# Altium footprint library ARBOR.PcbLib: 21 footprints (part 1 of 2)
Each footprint in its own frame and in the unit in brackets; x right, y up, seen from the top. Pads: shape width x height; smd on the part's side, far side on the other; paste and mask are expansions set on the pad; w line width, h text height; cw(c..) or ccw(c..) is an arc to the next point about the centre after c.
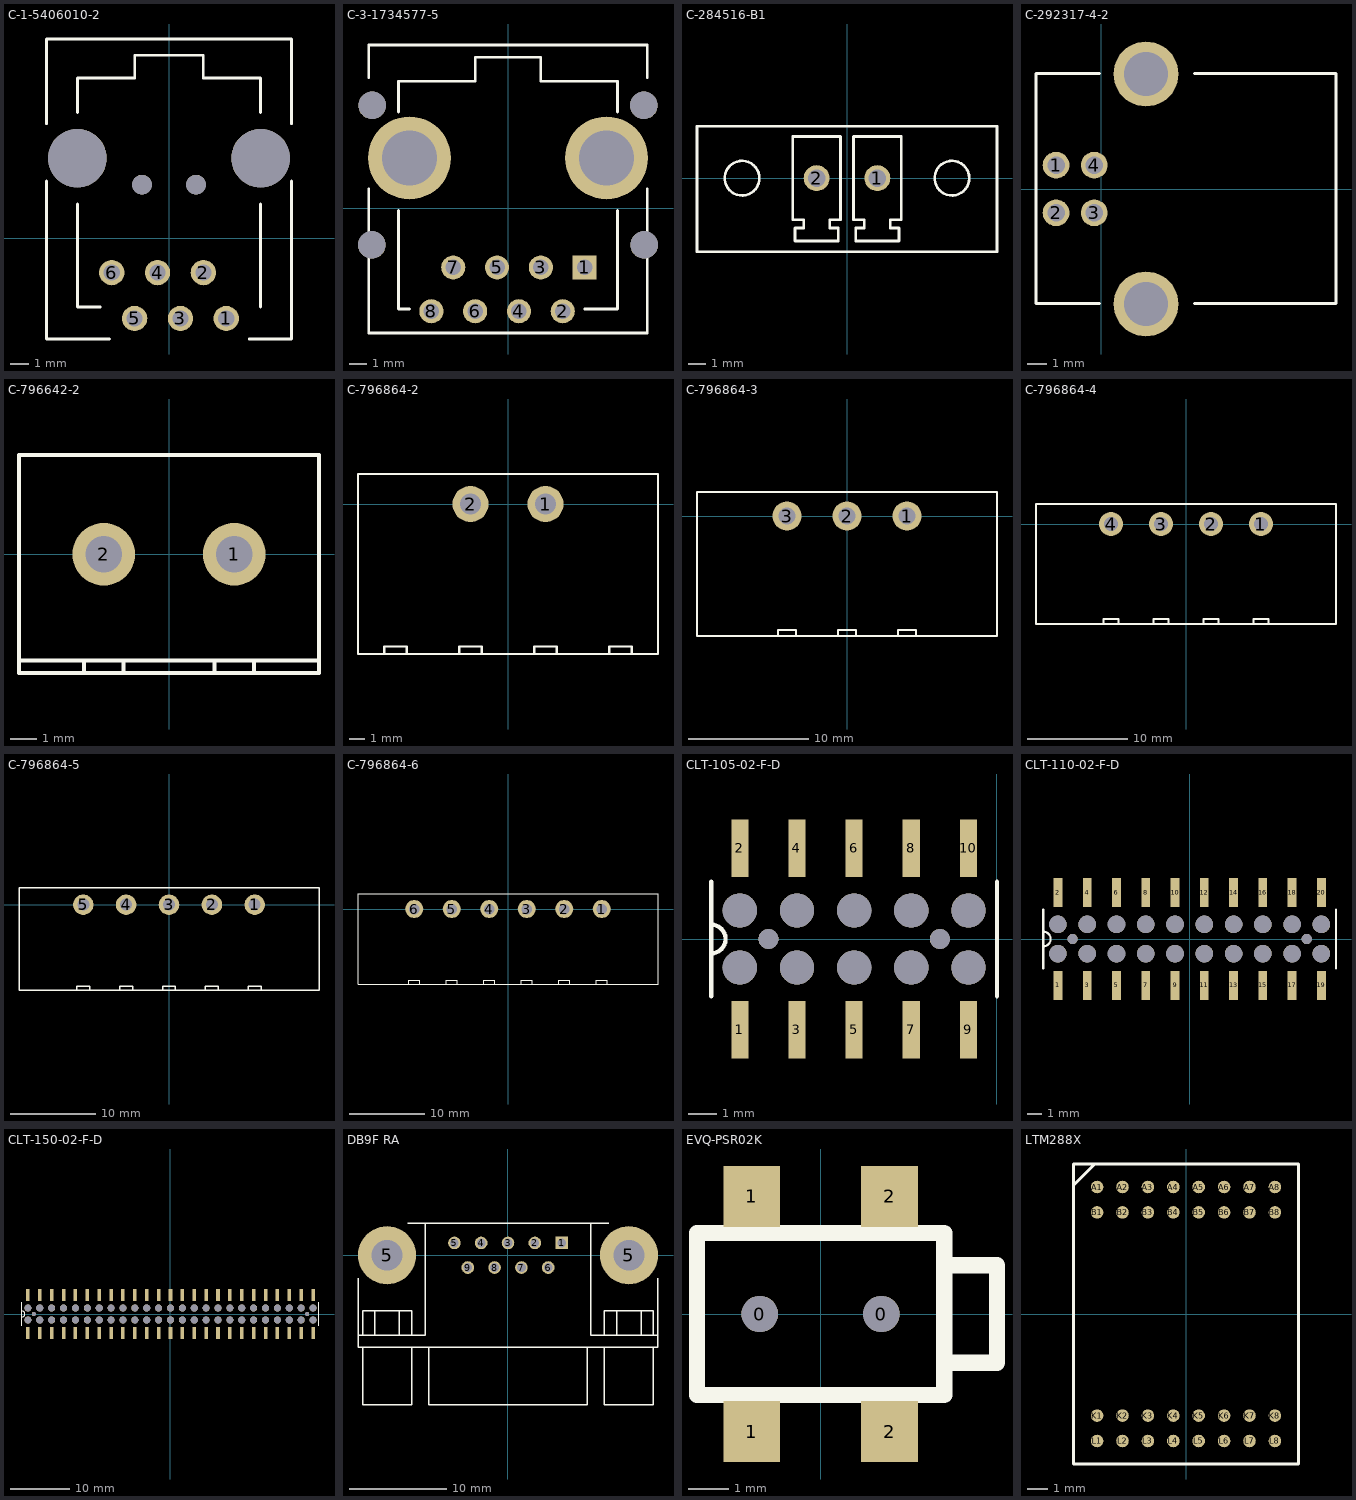
[diagram p0: the footprints below, top view; thin cyan lines are the x and y axes]

## C-1-5406010-2 [mm] "Tyco Electronics Vertical RJ11"
height 16.51
pads (10):
  round 1.4 hole 0.89: 1(3.175,-4.445) 2(1.905,-1.905) 3(0.635,-4.445) 4(-0.635,-1.905) 5(-1.905,-4.445) 6(-3.175,-1.905)
  round 3.25 hole 3.25 unplated: ""(-5.08,4.445) ""(5.08,4.445)
  round 1.09 hole 1.09 unplated: ""(-1.5,2.975) ""(1.5,2.975)
Top Overlay:
  lines w0.152: -6.795,3.175 -6.795,-5.585 -3.305,-5.585 ; -6.795,6.35 -6.795,11.055 0,11.055 6.795,11.055 6.795,6.35 ; -5.08,1.905 -5.08,-3.81 -3.81,-3.81 ; -5.08,6.985 -5.08,8.89 -1.905,8.89 -1.905,10.16 1.905,10.16 1.905,8.89 5.08,8.89 5.08,6.985 ; 4.445,-5.585 6.795,-5.585 6.795,3.175 ; 5.08,-3.81 5.08,1.905
3D body: height 16.38, standoff -3.17, extent -6.788,-5.58 6.839,10.93

## C-3-1734577-5 [mm] "Tyco Electronics Vertical RJ45"
height 16.51
pads (14):
  rect 1.4x1.4 hole 0.9: 1(4.445,-3.43)
  round 1.4 hole 0.9: 2(3.175,-5.97) 3(1.905,-3.43) 4(0.635,-5.97) 5(-0.635,-3.43) 6(-1.905,-5.97) 7(-3.175,-3.43) 8(-4.445,-5.97)
  round 1.6 hole 1.6 unplated: ""(-7.9,-2.12) ""(-7.875,5.97) ""(7.875,5.97) ""(7.9,-2.12)
  round 4.8 hole 3.2: ""(-5.715,2.92) ""(5.715,2.92)
Top Overlay:
  lines w0.152: -8.075,1.142 -8.075,-7.23 8.075,-7.23 8.075,1.142 ; -8.075,7.565 -8.075,9.47 8.075,9.47 8.075,7.565 ; -6.35,-0.128 -6.35,-5.843 -5.715,-5.843 ; -6.35,5.587 -6.35,7.365 -1.905,7.365 -1.905,8.762 1.905,8.762 1.905,7.365 6.35,7.365 6.35,5.587 ; 4.445,-5.843 6.35,-5.843 6.35,-0.128
3D body: height 16.51, standoff -3.44, extent -8.075,-7.298 8.075,9.402

## C-284516-B1 [mm] "Tyco Electronics Terminal Block 2 Way Vertical Header"
height 9.2
pads (2):
  round 1.5 hole 1: 1(1.75,0) 2(-1.75,0)
Top Overlay:
  circle w0.152: c-6.05,0 r1
  circle w0.152: c6.05,0 r1
  lines w0.152: -8.65,-4.25 8.65,-4.25 8.65,3 -8.65,3 -8.65,-4.25 ; -3.125,-2.4 -2.5,-2.4 -2.5,-2.875 -3,-2.875 -3,-3.625 -0.5,-3.625 -0.5,-2.875 -1,-2.875 -1,-2.4 -0.375,-2.4 -0.375,0 -0.375,2.4 -3.125,2.4 -3.125,0 -3.125,-2.4 ; 0.375,-2.4 1,-2.4 1,-2.875 0.5,-2.875 0.5,-3.625 3,-3.625 3,-2.875 2.5,-2.875 2.5,-2.4 3.125,-2.4 3.125,0 3.125,2.4 0.375,2.4 0.375,0 0.375,-2.4

## C-292317-4-2 [mm] "Tyco Electronics R/A USB Type B"
height 11.5
pads (6):
  round 1.4 hole 0.92: 1(-2.355,1.25) 2(-2.355,-1.25) 3(-0.355,-1.25) 4(-0.355,1.25)
  round 3.4 hole 2.3: ""(2.355,-6.02) ""(2.355,6.02)
Top Overlay:
  lines w0.152: -0.08,-6 -3.405,-6 -3.405,6.05 -0.08,6.05 ; 4.895,-6 12.305,-6 12.305,6.05 4.895,6.05
3D body: height 11.51, standoff -3.49, extent -3.05,-6.155 12.66,6.105

## C-796642-2 [mm] "Tyco Electronics Terminal Block 2 Way R/A Header"
height 12
pads (2):
  round 2.4 hole 1.4: 1(2.5,0) 2(-2.5,0)
Top Overlay:
  lines w0.152: -3.25,-4.55 -3.25,-4.075 ; -1.75,-4.55 -1.75,-4.075 ; 1.75,-4.55 1.75,-4.075 ; 3.25,-4.55 3.25,-4.075 ; -5.75,-4.075 -3.25,-4.075 ; -5.75,-4.075 -5.75,-4.075 ; -3.25,-4.075 -1.75,-4.075 ; -3.25,-4.075 -3.25,-4.075 ; -1.75,-4.075 1.75,-4.075 ; 1.75,-4.075 3.25,-4.075 ; 3.25,-4.075 5.75,-4.075 ; 5.75,-4.075 5.75,-4.075 ; -5.75,-4.55 5.75,-4.55 5.75,3.8 -5.75,3.8 -5.75,-4.55

## C-796864-2 [mm] "Tyco Electronics Terminal Block 4 Way R/A Header"
height 0.212
pads (2):
  round 2.4 hole 1.4: 1(2.5,0) 2(-2.5,0)
Top Overlay:
  lines w0.152: -8.25,-9.975 -8.25,-9.5 -6.75,-9.5 -6.75,-9.975 ; -3.25,-9.975 -3.25,-9.5 -1.75,-9.5 -1.75,-9.975 ; 1.75,-9.975 1.75,-9.5 3.25,-9.5 3.25,-9.975 ; 6.75,-9.975 6.75,-9.5 8.25,-9.5 8.25,-9.975 ; -10,-10 -10,2 0,2 10,2 10,-10 0,-10 -10,-10
3D body: height 8.35, standoff -3.5, extent -10,-9.975 10,2.025

## C-796864-3 [mm] "Tyco Electronics Terminal Block 3 Way R/A Header"
height 8.35
pads (3):
  round 2.4 hole 1.4: 1(5,0) 2(0,0) 3(-5,0)
Top Overlay:
  lines w0.152: -5.75,-9.975 -5.75,-9.5 -4.25,-9.5 -4.25,-9.975 ; -0.75,-9.975 -0.75,-9.5 0.75,-9.5 0.75,-9.975 ; 4.25,-9.975 4.25,-9.5 5.75,-9.5 5.75,-9.975 ; -12.5,-10 -12.5,2 12.5,2 12.5,-10 -12.5,-10
3D body: height 8.35, standoff -3.5, extent -12.5,-9.975 12.5,2.025

## C-796864-4 [mm] "Tyco Electronics Terminal Block 4 Way R/A Header"
height 0.212
pads (4):
  round 2.4 hole 1.4: 1(7.5,0) 2(2.5,0) 3(-2.5,0) 4(-7.5,0)
Top Overlay:
  lines w0.152: -8.25,-9.975 -8.25,-9.5 -6.75,-9.5 -6.75,-9.975 ; -3.25,-9.975 -3.25,-9.5 -1.75,-9.5 -1.75,-9.975 ; 1.75,-9.975 1.75,-9.5 3.25,-9.5 3.25,-9.975 ; 6.75,-9.975 6.75,-9.5 8.25,-9.5 8.25,-9.975 ; -15,-10 0,-10 15,-10 15,2 0,2 -15,2 -15,-10
3D body: height 8.35, standoff -3.5, extent -14.975,-10 15.025,2

## C-796864-5 [mm] "Tyco Electronics Terminal Block 5 Way R/A Header"
height 8.35
pads (5):
  round 2.4 hole 1.4: 1(10,0) 2(5,0) 3(0,0) 4(-5,0) 5(-10,0)
Top Overlay:
  lines w0.152: -10.75,-9.975 -10.75,-9.5 -9.25,-9.5 -9.25,-9.975 ; -5.75,-9.975 -5.75,-9.5 -4.25,-9.5 -4.25,-9.975 ; -0.75,-9.975 -0.75,-9.5 0.75,-9.5 0.75,-9.975 ; 4.25,-9.975 4.25,-9.5 5.75,-9.5 5.75,-9.975 ; 9.25,-9.975 9.25,-9.5 10.75,-9.5 10.75,-9.975 ; -17.5,-10 17.5,-10 17.5,2 -17.5,2 -17.5,-10
3D body: height 8.35, standoff -3.5, extent -17.5,-10 17.5,2

## C-796864-6 [mm] "Tyco Electronics Terminal Block 6 Way R/A Header"
height 8.35
pads (6):
  round 2.4 hole 1.4: 1(12.5,0) 2(7.5,0) 3(2.5,0) 4(-2.5,0) 5(-7.5,0) 6(-12.5,0)
Top Overlay:
  lines w0.152: -13.25,-9.975 -13.25,-9.5 -11.75,-9.5 -11.75,-9.975 ; -8.25,-9.975 -8.25,-9.5 -6.75,-9.5 -6.75,-9.975 ; -3.25,-9.975 -3.25,-9.5 -1.75,-9.5 -1.75,-9.975 ; 1.75,-9.975 1.75,-9.5 3.25,-9.5 3.25,-9.975 ; 6.75,-9.975 6.75,-9.5 8.25,-9.5 8.25,-9.975 ; 11.75,-9.975 11.75,-9.5 13.25,-9.5 13.25,-9.975 ; -20,-10 20,-10 20,2 -20,2 -20,-10
3D body: height 8.35, standoff -3.5, extent -20.025,-10.05 19.975,1.95

## CLT-105-02-F-D [mm] "LOW PROFILE DUAL WIPE SOCKET"
height 2.21
pads (22):
  rect 0.6x2 smd: 1(-9,-3.175) 2(-9,3.175) 3(-7,-3.175) 4(-7,3.175) 5(-5,-3.175) 6(-5,3.175) 7(-3,-3.175) 8(-3,3.175) 9(-1,-3.175) 10(-1,3.175)
  round 1.2 hole 1.2 unplated: ""(-9,-1) ""(-9,1) ""(-7,-1) ""(-7,1) ""(-5,-1) ""(-5,1) ""(-3,-1) ""(-3,1) ""(-1,-1) ""(-1,1)
  round 0.7 hole 0.7 unplated: ""(-8,0) ""(-2,0)
Top Overlay:
  lines w0.152: -10,-2 -10,0 -10,2 ; -10,-0.5 ccw(c-10,0) -10,0.5 ; 0,-2 0,0 0,2

## CLT-110-02-F-D [mm] "LOW PROFILE DUAL WIPE SOCKET"
height 2.21
pads (42):
  rect 0.6x2 smd: 1(-9,-3.175) 2(-9,3.175) 3(-7,-3.175) 4(-7,3.175) 5(-5,-3.175) 6(-5,3.175) 7(-3,-3.175) 8(-3,3.175) 9(-1,-3.175) 10(-1,3.175) 11(1,-3.175) 12(1,3.175) 13(3,-3.175) 14(3,3.175) 15(5,-3.175) 16(5,3.175) 17(7,-3.175) 18(7,3.175) 19(9,-3.175) 20(9,3.175)
  round 1.2 hole 1.2 unplated: ""(-9,-1) ""(-9,1) ""(-7,-1) ""(-7,1) ""(-5,-1) ""(-5,1) ""(-3,-1) ""(-3,1) ""(-1,-1) ""(-1,1) ""(1,-1) ""(1,1) ""(3,-1) ""(3,1) ""(5,-1) ""(5,1) ""(7,-1) ""(7,1) ""(9,-1) ""(9,1)
  round 0.7 hole 0.7 unplated: ""(-8,0) ""(8,0)
Top Overlay:
  lines w0.152: -10,-2 -10,0 -10,2 ; -10,-0.5 ccw(c-10,0) -10,0.5 ; 10,-2 10,0 10,2

## CLT-150-02-F-D [mm]
pads (102):
  rect 0.6x2 smd: 1(-24,-3.175) 2(-24,3.175) 3(-22,-3.175) 4(-22,3.175) 5(-20,-3.175) 6(-20,3.175) 7(-18,-3.175) 8(-18,3.175) 9(-16,-3.175) 10(-16,3.175) 11(-14,-3.175) 12(-14,3.175) 13(-12,-3.175) 14(-12,3.175) 15(-10,-3.175) 16(-10,3.175) 17(-8,-3.175) 18(-8,3.175) 19(-6,-3.175) 20(-6,3.175) 21(-4,-3.175) 22(-4,3.175) 23(-2,-3.175) 24(-2,3.175) 25(0,-3.175) 26(0,3.175) 27(2,-3.175) 28(2,3.175) 29(4,-3.175) 30(4,3.175) 31(6,-3.175) 32(6,3.175) 33(8,-3.175) 34(8,3.175) 35(10,-3.175) 36(10,3.175) 37(12,-3.175) 38(12,3.175) 39(14,-3.175) 40(14,3.175) 41(16,-3.175) 42(16,3.175) 43(18,-3.175) 44(18,3.175) 45(20,-3.175) 46(20,3.175) 47(22,-3.175) 48(22,3.175) 49(24,-3.175) 50(24,3.175)
  round 1.2 hole 1.2 unplated: ""(-24,-1) ""(-24,1) ""(-22,-1) ""(-22,1) ""(-20,-1) ""(-20,1) ""(-18,-1) ""(-18,1) ""(-16,-1) ""(-16,1) ""(-14,-1) ""(-14,1) ""(-12,-1) ""(-12,1) ""(-10,-1) ""(-10,1) ""(-8,-1) ""(-8,1) ""(-6,-1) ""(-6,1) ""(-4,-1) ""(-4,1) ""(-2,-1) ""(-2,1) ""(0,-1) ""(0,1) ""(2,-1) ""(2,1) ""(4,-1) ""(4,1) ""(6,-1) ""(6,1) ""(8,-1) ""(8,1) ""(10,-1) ""(10,1) ""(12,-1) ""(12,1) ""(14,-1) ""(14,1) ""(16,-1) ""(16,1) ""(18,-1) ""(18,1) ""(20,-1) ""(20,1) ""(22,-1) ""(22,1) ""(24,-1) ""(24,1)
  round 0.7 hole 0.7 unplated: ""(-23,0) ""(23,0)
Top Overlay:
  lines w0.152: -25,-2 -25,0 -25,2 ; -25,-0.5 ccw(c-25,0) -25,0.5 ; 25,-2 25,0 25,2

## DB9F RA [mm] "FEMALE DB 9 RA - TYCO CONNECTOR"
height 12.55
pads (11):
  rect 1.3x1.3 hole 0.9: 1(5.54,1.27)
  round 1.3 hole 0.9: 2(2.77,1.27) 3(0,1.27) 4(-2.77,1.27) 5(-5.54,1.27) 6(4.155,-1.27) 7(1.385,-1.27) 8(-1.385,-1.27) 9(-4.155,-1.27)
  round 6 hole 3.2: 5(-12.495,0) 5(12.495,0)
Top Overlay:
  lines w0.152: -15.495,-8.255 -8.545,-8.255 -8.545,3.28 ; -15.495,-2.375 -15.495,-9.52 15.495,-9.52 15.495,-2.375 ; -15.022,-9.52 -15.022,-15.42 -9.968,-15.42 -9.968,-9.52 ; -15.022,-8.255 -15.022,-5.715 -9.942,-5.715 -9.942,-8.255 ; -13.752,-8.255 -13.752,-5.715 ; -12.495,0 -12.482,0.013 ; -11.212,-8.255 -11.212,-5.715 ; -10.37,3.28 10.4,3.28 ; -8.164,-9.52 -8.164,-15.42 8.164,-15.42 8.164,-9.52 ; 8.545,3.28 8.545,-8.255 15.495,-8.255 ; 9.942,-8.255 9.942,-5.715 15.022,-5.715 15.022,-8.255 ; 9.968,-9.52 9.968,-15.42 15.022,-15.42 15.022,-9.52 ; 11.212,-8.255 11.212,-5.715 ; 13.752,-8.255 13.752,-5.715

## EVQ-PSR02K [mm] "right angle button"
pads (6):
  round 0.9 hole 0.9 unplated: 0(-1.5,0) 0(1.5,0)
  rect 1.4x1.5 smd: 1(-1.7,-2.9) 1(-1.7,2.9) 2(1.7,-2.9) 2(1.7,2.9)
Top Overlay:
  lines w0.4: 3.05,-1.2 4.35,-1.2 4.35,1.2 3.05,1.2 ; 3.05,-0.925 3.05,-0.875 ; -3.05,-2 -3.05,-0.125 -3.05,2 3.05,2 3.05,-0.025 3.05,-2 -3.05,-2

## LTM288X [mm] "Isolated RS232/RS485/RS422 Transceiver"
height 2.69
pads (32):
  round 0.63 smd: A1(-4.445,6.35) A2(-3.175,6.35) A3(-1.905,6.35) A4(-0.635,6.35) A5(0.635,6.35) A6(1.905,6.35) A7(3.175,6.35) A8(4.445,6.35) B1(-4.445,5.08) B2(-3.175,5.08) B3(-1.905,5.08) B4(-0.635,5.08) B5(0.635,5.08) B6(1.905,5.08) B7(3.175,5.08) B8(4.445,5.08) K1(-4.445,-5.08) K2(-3.175,-5.08) K3(-1.905,-5.08) K4(-0.635,-5.08) K5(0.635,-5.08) K6(1.905,-5.08) K7(3.175,-5.08) K8(4.445,-5.08) L1(-4.445,-6.35) L2(-3.175,-6.35) L3(-1.905,-6.35) L4(-0.635,-6.35) L5(0.635,-6.35) L6(1.905,-6.35) L7(3.175,-6.35) L8(4.445,-6.35)
Top Overlay:
  lines w0.152: -5.625,6.44 -5.625,-7.5 5.625,-7.5 5.625,7.5 -4.565,7.5 ; -5.625,6.44 -4.565,7.5 ; -5.625,6.44 -5.625,7.5 -4.565,7.5